# Altium footprint library Full_lib.PcbLib: 247 footprints (part 13 of 16)
Each footprint in its own frame and in the unit in brackets; x right, y up, seen from the top. Pads: shape width x height; smd on the part's side, far side on the other; paste and mask are expansions set on the pad; w line width, h text height; cw(c..) or ccw(c..) is an arc to the next point about the centre after c.
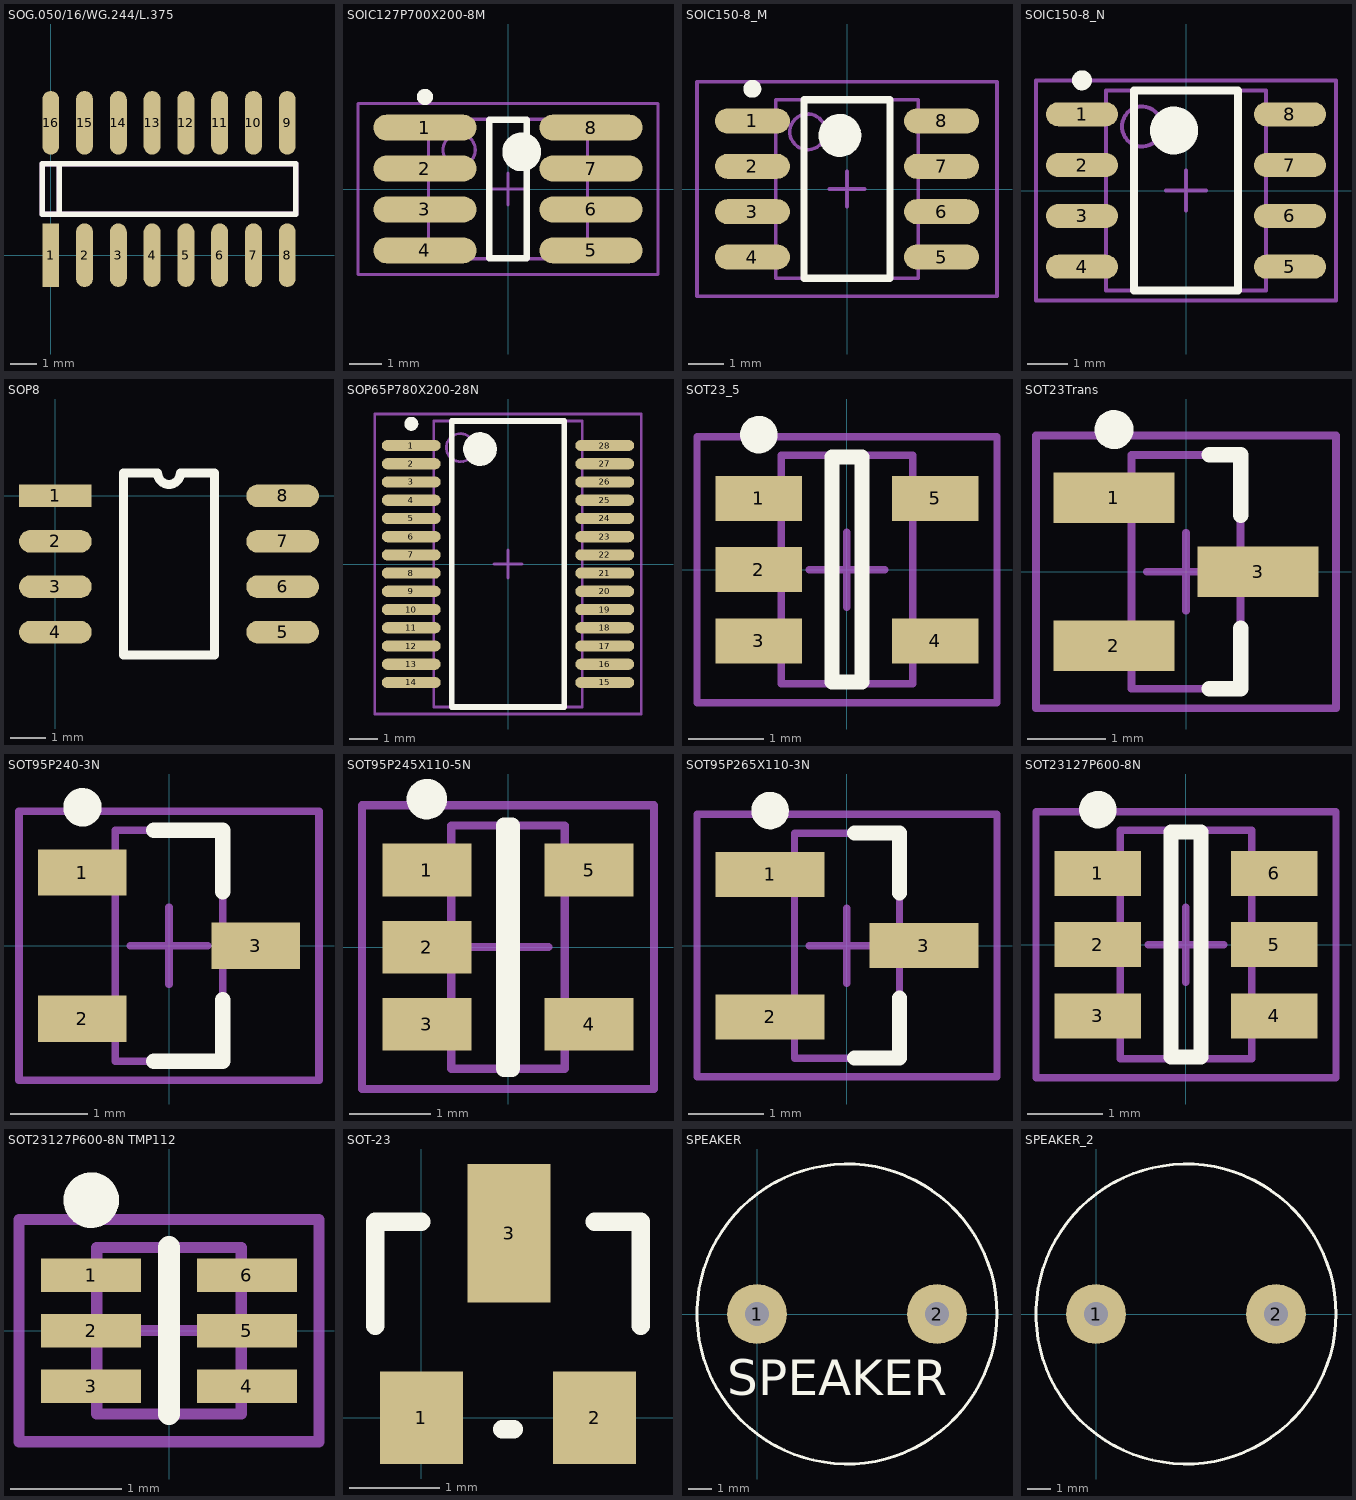
[diagram p12: the footprints below, top view; thin cyan lines are the x and y axes]

## SOG.050/16/WG.244/L.375 [mil]
pads (16):
  rect 25x94 smd: 1(0,0)
  oval 25x94 smd: 2(50,0) 3(100,0) 4(150,0) 5(200,0) 6(250,0) 7(300,0) 8(350,0) 9(350,196) 10(300,196) 11(250,196) 12(200,196) 13(150,196) 14(100,196) 15(50,196) 16(0,196)
Top Overlay:
  lines w8: 12.5,60.5 12.5,135.5 ; -12.5,60.5 -12.5,135.5 362.5,135.5 362.5,60.5 -12.5,60.5
Mechanical 1:
  lines w8: 12.5,60.5 12.5,135.5 ; -12.5,60.5 -12.5,135.5 362.5,135.5 362.5,60.5 -12.5,60.5

## SOIC127P700X200-8M [mm]
pads (8):
  oval 3.2x0.8 smd: 1(-2.575,1.905) 2(-2.575,0.635) 3(-2.575,-0.635) 4(-2.575,-1.905) 5(2.575,-1.905) 6(2.575,-0.635) 7(2.575,0.635) 8(2.575,1.905)
Top Overlay:
  circle w0.25: c-2.575,2.855 r0.125
  circle w0.6: c0.425,1.15 r0.3
  lines w0.2: -0.575,-2.15 -0.575,2.15 0.575,2.15 0.575,-2.15 -0.575,-2.15
Mechanical 13:
  circle w0.1: c-1.515,1.21 r0.5
  lines w0.1: -2.465,-2.16 -2.465,2.16 2.465,2.16 2.465,-2.16 -2.465,-2.16
Mechanical 15:
  lines w0.1: -0.5,0 0.5,0 ; 0,-0.5 0,0.5 ; -4.65,-2.65 -4.65,2.65 4.65,2.65 4.65,-2.65 -4.65,-2.65
3D body: height 2, standoff 0.1, extent -2.465,-2.16 2.465,2.16

## SOIC150-8_M [mm] "8-Pin Plastic Narrow Body Small Outline Integrated Circuit 1.27 mm Pitch, IPC Low Density"
height 1.76
pads (8):
  oval 2.1x0.7 smd: 1(-2.65,1.905) 2(-2.65,0.635) 3(-2.65,-0.635) 4(-2.65,-1.905) 5(2.65,-1.905) 6(2.65,-0.635) 7(2.65,0.635) 8(2.65,1.905)
Top Overlay:
  circle w0.25: c-2.65,2.805 r0.125
  circle w0.6: c-0.2,1.5 r0.3
  lines w0.2: -1.2,-2.5 -1.2,2.5 1.2,2.5 1.2,-2.5 -1.2,-2.5
Mechanical 13:
  circle w0.1: c-1.1,1.6 r0.5
  lines w0.1: -2,-2.5 -2,2.5 2,2.5 2,-2.5 -2,-2.5
Mechanical 15:
  lines w0.1: -0.5,0 0.5,0 ; 0,-0.5 0,0.5 ; -4.2,-3 -4.2,3 4.2,3 4.2,-3 -4.2,-3
3D body: height 1.76, standoff 0, extent -2,-2.5 2,2.5

## SOIC150-8_N [mm] "8-Pin Plastic Narrow Body Small Outline Integrated Circuit 1.27 mm Pitch, IPC Medium Density"
height 1.76
pads (8):
  oval 1.8x0.6 smd: 1(-2.6,1.905) 2(-2.6,0.635) 3(-2.6,-0.635) 4(-2.6,-1.905) 5(2.6,-1.905) 6(2.6,-0.635) 7(2.6,0.635) 8(2.6,1.905)
Top Overlay:
  circle w0.25: c-2.6,2.755 r0.125
  circle w0.6: c-0.3,1.5 r0.3
  lines w0.2: -1.3,-2.5 -1.3,2.5 1.3,2.5 1.3,-2.5 -1.3,-2.5
Mechanical 13:
  circle w0.1: c-1.1,1.6 r0.5
  lines w0.1: -2,-2.5 -2,2.5 2,2.5 2,-2.5 -2,-2.5
Mechanical 15:
  lines w0.1: -0.5,0 0.5,0 ; 0,-0.5 0,0.5 ; -3.75,-2.75 -3.75,2.75 3.75,2.75 3.75,-2.75 -3.75,-2.75
3D body: height 1.76, standoff 0, extent -2,-2.5 2,2.5

## SOP8 [mil]
pads (8):
  rect 80x25 smd: 1(0,0)
  oval 80x25 smd: 2(0,-50) 3(0,-100) 4(0,-150) 5(250,-150) 6(250,-100) 7(250,-50) 8(250,0)
Top Overlay:
  lines w10: 75,-175 75,25 112.5,25 ccw(c125,25) 137.5,25 175,25 175,-175 75,-175

## SOP65P780X200-28N [mm] "SOP, 28-Leads, Body 10.2x5.3mm (max), Pitch 0.65mm, IPC Medium Density"
height 2
pads (28):
  oval 2.1x0.4 smd: 1(-3.45,4.225) 2(-3.45,3.575) 3(-3.45,2.925) 4(-3.45,2.275) 5(-3.45,1.625) 6(-3.45,0.975) 7(-3.45,0.325) 8(-3.45,-0.325) 9(-3.45,-0.975) 10(-3.45,-1.625) 11(-3.45,-2.275) 12(-3.45,-2.925) 13(-3.45,-3.575) 14(-3.45,-4.225) 15(3.45,-4.225) 16(3.45,-3.575) 17(3.45,-2.925) 18(3.45,-2.275) 19(3.45,-1.625) 20(3.45,-0.975) 21(3.45,-0.325) 22(3.45,0.325) 23(3.45,0.975) 24(3.45,1.625) 25(3.45,2.275) 26(3.45,2.925) 27(3.45,3.575) 28(3.45,4.225)
Top Overlay:
  circle w0.6: c-1,4.1 r0.3
  circle w0.25: c-3.45,5 r0.125
  lines w0.2: -2,-5.1 2,-5.1 2,5.1 -2,5.1 -2,-5.1
Mechanical 13:
  circle w0.1: c-1.7,4.15 r0.5
  lines w0.1: -2.65,-5.1 2.65,-5.1 2.65,5.1 -2.65,5.1 -2.65,-5.1
Mechanical 15:
  lines w0.1: -0.5,0 0.5,0 ; 0,-0.5 0,0.5 ; -4.75,-5.35 4.75,-5.35 4.75,5.35 -4.75,5.35 -4.75,-5.35
3D body: height 2, standoff 0.05, extent -2.65,-5.1 2.65,5.1

## SOT23_5 [mm] "SOT23, 5-Leads, Body 3.0x3.0mm (max), Pitch 0.95mm, IPC Medium Density"
height 1.45
pads (5):
  rect 1.15x0.6 smd: 1(-1.175,0.95) 2(-1.175,0) 3(-1.175,-0.95) 4(1.175,-0.95) 5(1.175,0.95)
Top Overlay:
  circle w0.25: c-1.175,1.8 r0.125
  lines w0.2: -0.2,-1.5 0.2,-1.5 0.2,1.5 -0.2,1.5 -0.2,-1.5
Mechanical 13:
  lines w0.1: -0.875,-1.525 -0.875,1.525 0.875,1.525 0.875,-1.525 -0.875,-1.525
Mechanical 15:
  lines w0.1: -0.5,0 0.5,0 ; 0,-0.5 0,0.5 ; -2,-1.775 -2,1.775 2,1.775 2,-1.775 -2,-1.775
3D body: height 1.45, standoff 0.15, extent -0.875,-1.525 0.875,1.525

## SOT23Trans [mm] "SOT23, 3-Leads, Body 3.0x2.6mm (max), Pitch 0.95mm, IPC Medium Density"
height 1.1
pads (3):
  rect 1.55x0.65 smd: 1(-0.925,0.95) 2(-0.925,-0.95) 3(0.925,0)
Top Overlay:
  circle w0.25: c-0.925,1.825 r0.125
  lines w0.2: 0.3,-1.5 0.7,-1.5 0.7,-0.725 ; 0.3,1.5 0.7,1.5 0.7,0.725
Mechanical 13:
  lines w0.1: -0.7,-1.5 0.7,-1.5 0.7,1.5 -0.7,1.5 -0.7,-1.5
Mechanical 15:
  lines w0.1: -0.5,0 0.5,0 ; 0,-0.5 0,0.5 ; -1.925,-1.75 1.925,-1.75 1.925,1.75 -1.925,1.75 -1.925,-1.75
3D body: height 1.1, standoff 0.05, extent -0.7,-1.5 0.7,1.5

## SOT95P240-3N [mm] "SOT23, 3-Leads, Body 2.9x1.3mm, Pitch 0.95mm, Lead Span 2.4mm, IPC Medium Density"
height 1.14
pads (3):
  rect 1.15x0.6 smd: 1(-1.125,0.95) 2(-1.125,-0.95) 3(1.125,0)
Top Overlay:
  circle w0.25: c-1.125,1.8 r0.125
  lines w0.2: -0.2,-1.5 0.7,-1.5 0.7,-0.7 ; -0.2,1.5 0.7,1.5 0.7,0.7
Mechanical 13:
  lines w0.1: -0.7,-1.5 -0.7,1.5 0.7,1.5 0.7,-1.5 -0.7,-1.5
Mechanical 15:
  lines w0.1: -0.5,0 0.5,0 ; 0,-0.5 0,0.5 ; -1.95,-1.75 -1.95,1.75 1.95,1.75 1.95,-1.75 -1.95,-1.75
3D body: height 1.14, standoff 0, extent -0.7,-1.5 0.7,1.5

## SOT95P245X110-5N [mm] "SOT23, 5-Leads, Body 3.0x2.6mm (max), Pitch 0.95mm, IPC Medium Density"
height 1.1
pads (5):
  rect 1.1x0.65 smd: 1(-1,0.95) 2(-1,0) 3(-1,-0.95) 4(1,-0.95) 5(1,0.95)
Top Overlay:
  circle w0.25: c-1,1.825 r0.125
  lines w0.2: -0.05,-1.5 0.05,-1.5 0.05,1.5 -0.05,1.5 -0.05,-1.5
Mechanical 13:
  lines w0.1: -0.7,-1.5 -0.7,1.5 0.7,1.5 0.7,-1.5 -0.7,-1.5
Mechanical 15:
  lines w0.1: -0.5,0 0.5,0 ; 0,-0.5 0,0.5 ; -1.8,-1.75 -1.8,1.75 1.8,1.75 1.8,-1.75 -1.8,-1.75
3D body: height 1.1, standoff 0.05, extent -0.7,-1.5 0.7,1.5

## SOT95P265X110-3N [mm] "SOT23, 3-Leads, Body 3.0x2.7mm (max), Pitch 0.95mm, IPC Medium Density"
height 1.1
pads (3):
  rect 1.45x0.6 smd: 1(-1.025,0.95) 2(-1.025,-0.95) 3(1.025,0)
Top Overlay:
  circle w0.25: c-1.025,1.8 r0.125
  lines w0.2: 0.1,-1.5 0.7,-1.5 0.7,-0.7 ; 0.1,1.5 0.7,1.5 0.7,0.7
Mechanical 13:
  lines w0.1: -0.7,-1.5 -0.7,1.5 0.7,1.5 0.7,-1.5 -0.7,-1.5
Mechanical 15:
  lines w0.1: -0.5,0 0.5,0 ; 0,-0.5 0,0.5 ; -2,-1.75 -2,1.75 2,1.75 2,-1.75 -2,-1.75
3D body: height 1.1, standoff 0.05, extent -0.7,-1.5 0.7,1.5

## SOT23127P600-8N [mm]
height 1.45
pads (6):
  rect 1.15x0.6 smd: 1(-1.175,0.95) 2(-1.175,0) 3(-1.175,-0.95) 4(1.175,-0.95) 5(1.175,0) 6(1.175,0.95)
Top Overlay:
  circle w0.25: c-1.175,1.8 r0.125
  lines w0.2: -0.2,-1.5 0.2,-1.5 0.2,1.5 -0.2,1.5 -0.2,-1.5
Mechanical 13:
  lines w0.1: -0.875,-1.525 -0.875,1.525 0.875,1.525 0.875,-1.525 -0.875,-1.525
Mechanical 15:
  lines w0.1: -0.5,0 0.5,0 ; 0,-0.5 0,0.5 ; -2,-1.775 -2,1.775 2,1.775 2,-1.775 -2,-1.775
3D body: height 1.45, standoff 0.15, extent -0.875,-1.525 0.875,1.525

## SOT23127P600-8N TMP112 [mm] "Footpin of TMP112"
height 1.45
pads (6):
  rect 0.9x0.3 smd: 1(-0.7,0.5) 2(-0.7,0) 3(-0.7,-0.5) 4(0.7,-0.5) 5(0.7,0) 6(0.7,0.5)
Top Overlay:
  circle w0.25: c-0.7,1.175 r0.125
  lines w0.2: 0,-0.75 0,0.75 0,-0.75
Mechanical 13:
  lines w0.1: -0.65,-0.75 -0.65,0.75 0.65,0.75 0.65,-0.75 -0.65,-0.75
Mechanical 15:
  lines w0.1: -0.5,0 0.5,0 ; 0,-0.5 0,0.5 ; -1.35,-1 -1.35,1 1.35,1 1.35,-1 -1.35,-1
3D body: height 1.45, standoff 0.05, extent -0.65,-0.75 0.65,0.75

## SOT-23 [mil]
pads (3):
  rect 36x40 smd: 1(0,0) 2(75,0)
  rect 36x60 smd: 3(38,80)
Top Overlay:
  lines w8: -20,40 -20,85 0,85 ; 35,-5 40,-5 ; 75,85 95,85 95,40

## SPEAKER [mil]
pads (2):
  round 100 hole 40: 1(0,0) 2(300,0)
Top Overlay:
  circle w5: c150,0 r250
  text "SPEAKER" at -50,-135 h59.05

## SPEAKER_2 [mil]
pads (2):
  round 100 hole 40: 1(0,0) 2(300,0)
Top Overlay:
  circle w5: c150,0 r250